# Altium schematic symbol library GE.SchLib: 23 symbols
Pins are listed as number, name and electrical type; pins without a type are passive.

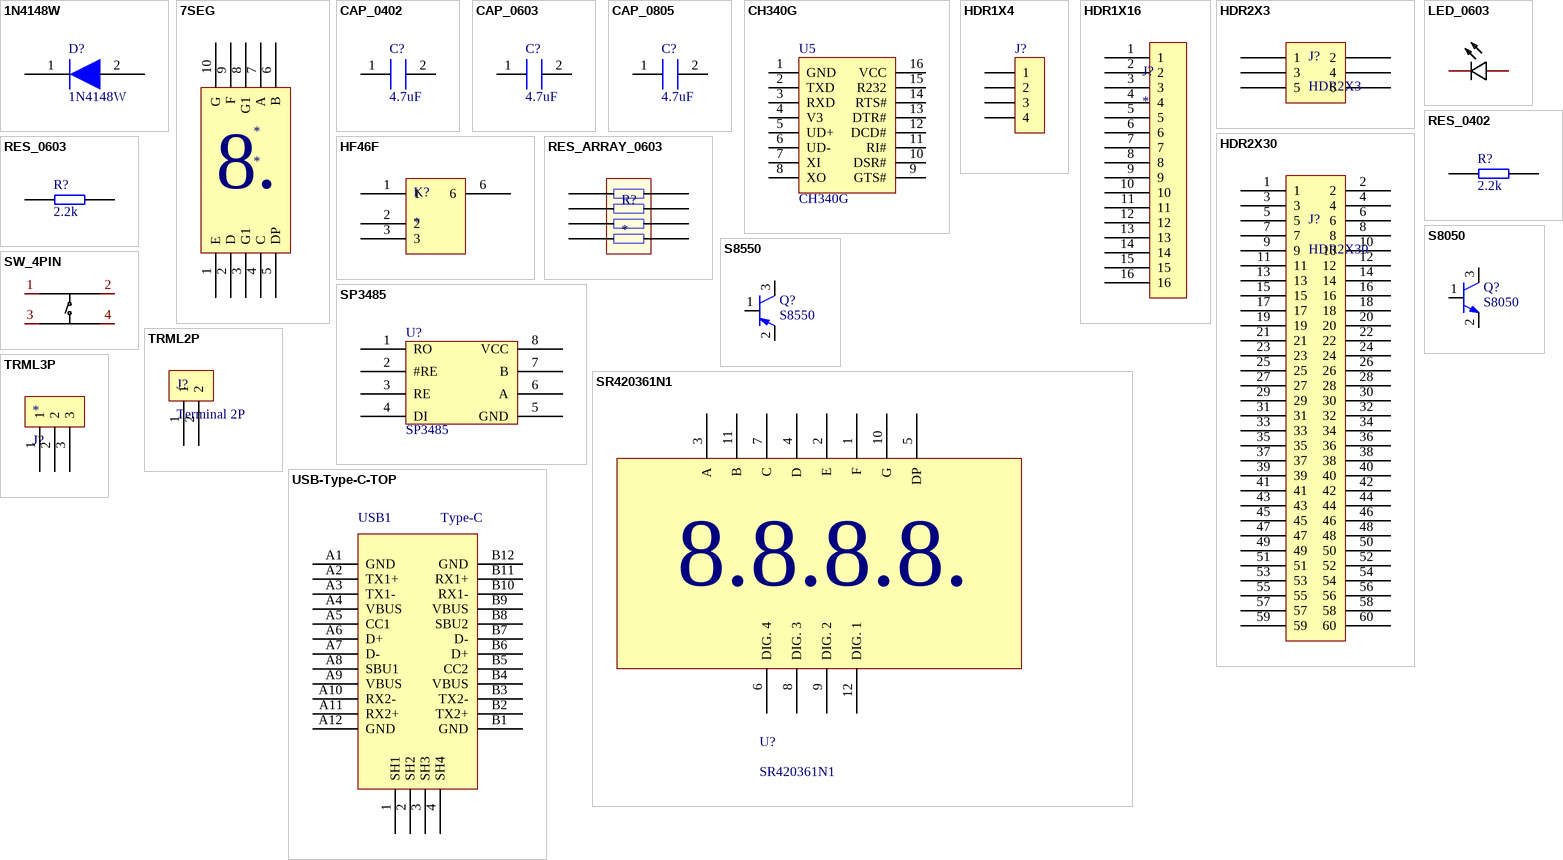
[diagram p0: symbols 1N4148W to USB-Type-C-TOP]

## 1N4148W
designator D?
二极管
footprint SOD-123_L2.8-W1.8-LS3.7-RD
pins: 1, 2

## 7SEG
designator *
一位数码管
footprint SM410561N (一位数码管 方舟出品)
pins: 1 E, 2 D, 3 G1, 4 C, 5 DP, 6 B, 7 A, 8 G1, 9 F, 10 G
text: 8.

## CAP_0402
designator C?, comment 4.7uF
电容
footprint 0402C
pins: 1, 2

## CAP_0603
designator C?, comment 4.7uF
电容
footprint 0603C
pins: 1, 2

## CAP_0805
designator C?, comment 4.7uF
电容
footprint 0805C (Footprint not found)
pins: 1, 2

## CH340G
designator U5
footprint SOIC-16_L9.9-W3.9-P1.27-LS6.0-BL
pins: 1 GND, 2 TXD, 3 RXD, 4 V3, 5 UD+, 6 UD-, 7 XI, 8 XO, 9 GTS#, 10 DSR#, 11 RI#, 12 DCD#, 13 DTR#, 14 RTS#, 15 R232, 16 VCC

## HDR1X4
designator J?
Connector
footprint HDR1X4 (Connector; Header; 4 Position)
pins: 1, 2, 3, 4
2 alternate drawings of the same symbol

## HDR1X16
designator J?
footprint HDR1X16
pins: 1, 2, 3, 4, 5, 6, 7, 8, 9, 10, 11, 12, 13, 14, 15, 16

## HDR2X3
designator J?
pins: 1, 2, 3, 4, 5, 6

## HDR2X30
designator J?
footprint HDR2x30
pins: 1, 2, 3, 4, 5, 6, 7, 8, 9, 10, 11, 12, 13, 14, 15, 16, 17, 18, 19, 20, 21, 22, 23, 24, 25, 26, 27, 28, 29, 30, 31, 32, 33, 34, 35, 36, 37, 38, 39, 40, 41, 42, 43, 44, 45, 46, 47, 48, 49, 50, 51, 52, 53, 54, 55, 56, 57, 58, 59, 60

## HF46F
designator K?
5V一路继电器宏发C5252509 / https://item.szlcsc.com/5969785.html
footprint RELAY-TH_HF46F-5-HS1T (继电器5v)
pins: 1, 2, 3, 6

## LED_0603
designator LED?, comment NCD0603R1_C84263  (value not drawn)
Manufacturer: 国星光电; Symbol: FC-DA1608HRK-620D; Add into BOM: yes; Emitted Color: 红灯; Name: NCD0603R1; Device: NCD0603R1_C84263; LCSC Part Name: 红灯; Supplier Part: C84263; Manufacturer Part: NCD0603R1; Supplier Footprint: 0603; JLCPCB Part Class: Extended Part; Datasheet: https://atta.szlcsc.com/upload/public/pdf/source/20200820/C84263_DABC6A75E58F576973B407FDBA283D60.pdf; Supplier: LCSC; Convert to PCB: yes
footprint LED0603-RD_RED
3D model LED0603-RD_RED
pins: 1 K, 2 A

## RES_0402
designator R?, comment 2.2k
电阻
footprint 0402R
pins: 1, 2

## RES_0603
designator R?, comment 2.2k
电阻
footprint 0603R
pins: 1, 2

## RES_ARRAY_0603
designator R?
footprint RES-ARRAY-SMD_0603-8P-L3.2-W1.6-BL
pins: 1, 2, 3, 4, 5, 6, 7, 8

## S8050
designator Q?
footprint SOT-23-3_L2.9-W1.6-P1.90-LS2.8-BR
pins: 1, 2, 3

## S8550
designator Q?
PNP
footprint SOT-23-3_L2.9-W1.6-P1.90-LS2.8-BR
pins: 1, 2, 3

## SP3485
designator U?
footprint SP3485
pins: 1 RO, 2 #RE, 3 RE, 4 DI, 5 GND, 6 A, 7 B, 8 VCC

## SR420361N1
designator U?
0.36英寸四位红色共阴数码管,方舟电子出品
footprint SR420361N1 (0.36英寸四位(4位)超高亮红色共阴数码管,方舟电子出品)
pins: 1 F, 2 E, 3 A, 4 D, 5 DP, 6 DIG. 4, 7 C, 8 DIG. 3, 9 DIG. 2, 10 G, 11 B, 12 DIG. 1
text: 8.8.8.8.

## SW_4PIN
designator SW?, comment TS665CJ  (value not drawn)
Manufacturer: SHOU HAN(首韩); Add into BOM: yes; Contact Current: 50mA; Voltage Rating (DC): 12V; Circuit: 单刀单掷; Actuator Style: 圆形按钮; Switch Length: 6mm; Switch Height: 5mm; Name: TS665CJ; Symbol: TS665CJ; Device: TS665CJ; LCSC Part Name: 6*6*5mm 直插 轻触开关; Supplier Part: C393938; Manufacturer Part: TS665CJ; Supplier Footprint: 插件; JLCPCB Part Class: Extended Part; Datasheet: https://atta.szlcsc.com/upload/public/pdf/source/20190521/C393938_BDABEAC600B4C55E200A80AA129B70BC.pdf; Supplier: LCSC; Convert to PCB: yes; Mounting Style: 直插; With Lamp: -; Mechanical Life: -; Switch Width: 6mm
3D model SW-TH_4P-L6.0-W6.0-H5.0-LS6.5-P4.50
footprint SW-TH_4P-L6.0-W6.0-P4.50-LS6.5
pins: 1 A, 2 B, 3 C, 4 D

## TRML2P
designator J?, comment Terminal 2P
2P接线端子直针
footprint TRML2P (2P接线端子)
pins: 1, 2

## TRML3P
designator *, comment J?
3P接线端子直针
footprint TRML3P (3P接线端子直针C72334)
pins: 1, 2, 3

## USB-Type-C-TOP
designator USB1, comment Type-C
USB接口https://item.taobao.com/item.htm?id=573090887123
footprint Type-C-TOP
pins: 1 SH1, 2 SH2, 3 SH3, 4 SH4, A1 GND, A2 TX1+, A3 TX1-, A4 VBUS, A5 CC1, A6 D+, A7 D-, A8 SBU1, A9 VBUS, A10 RX2-, A11 RX2+, A12 GND, B1 GND, B2 TX2+, B3 TX2-, B4 VBUS, B5 CC2, B6 D+, B7 D-, B8 SBU2, B9 VBUS, B10 RX1-, B11 RX1+, B12 GND